# Altium footprint library Caps.PcbLib: 14 footprints
Each footprint in its own frame and in the unit in brackets; x right, y up, seen from the top. Pads: shape width x height; smd on the part's side, far side on the other; paste and mask are expansions set on the pad; w line width, h text height; cw(c..) or ccw(c..) is an arc to the next point about the centre after c.
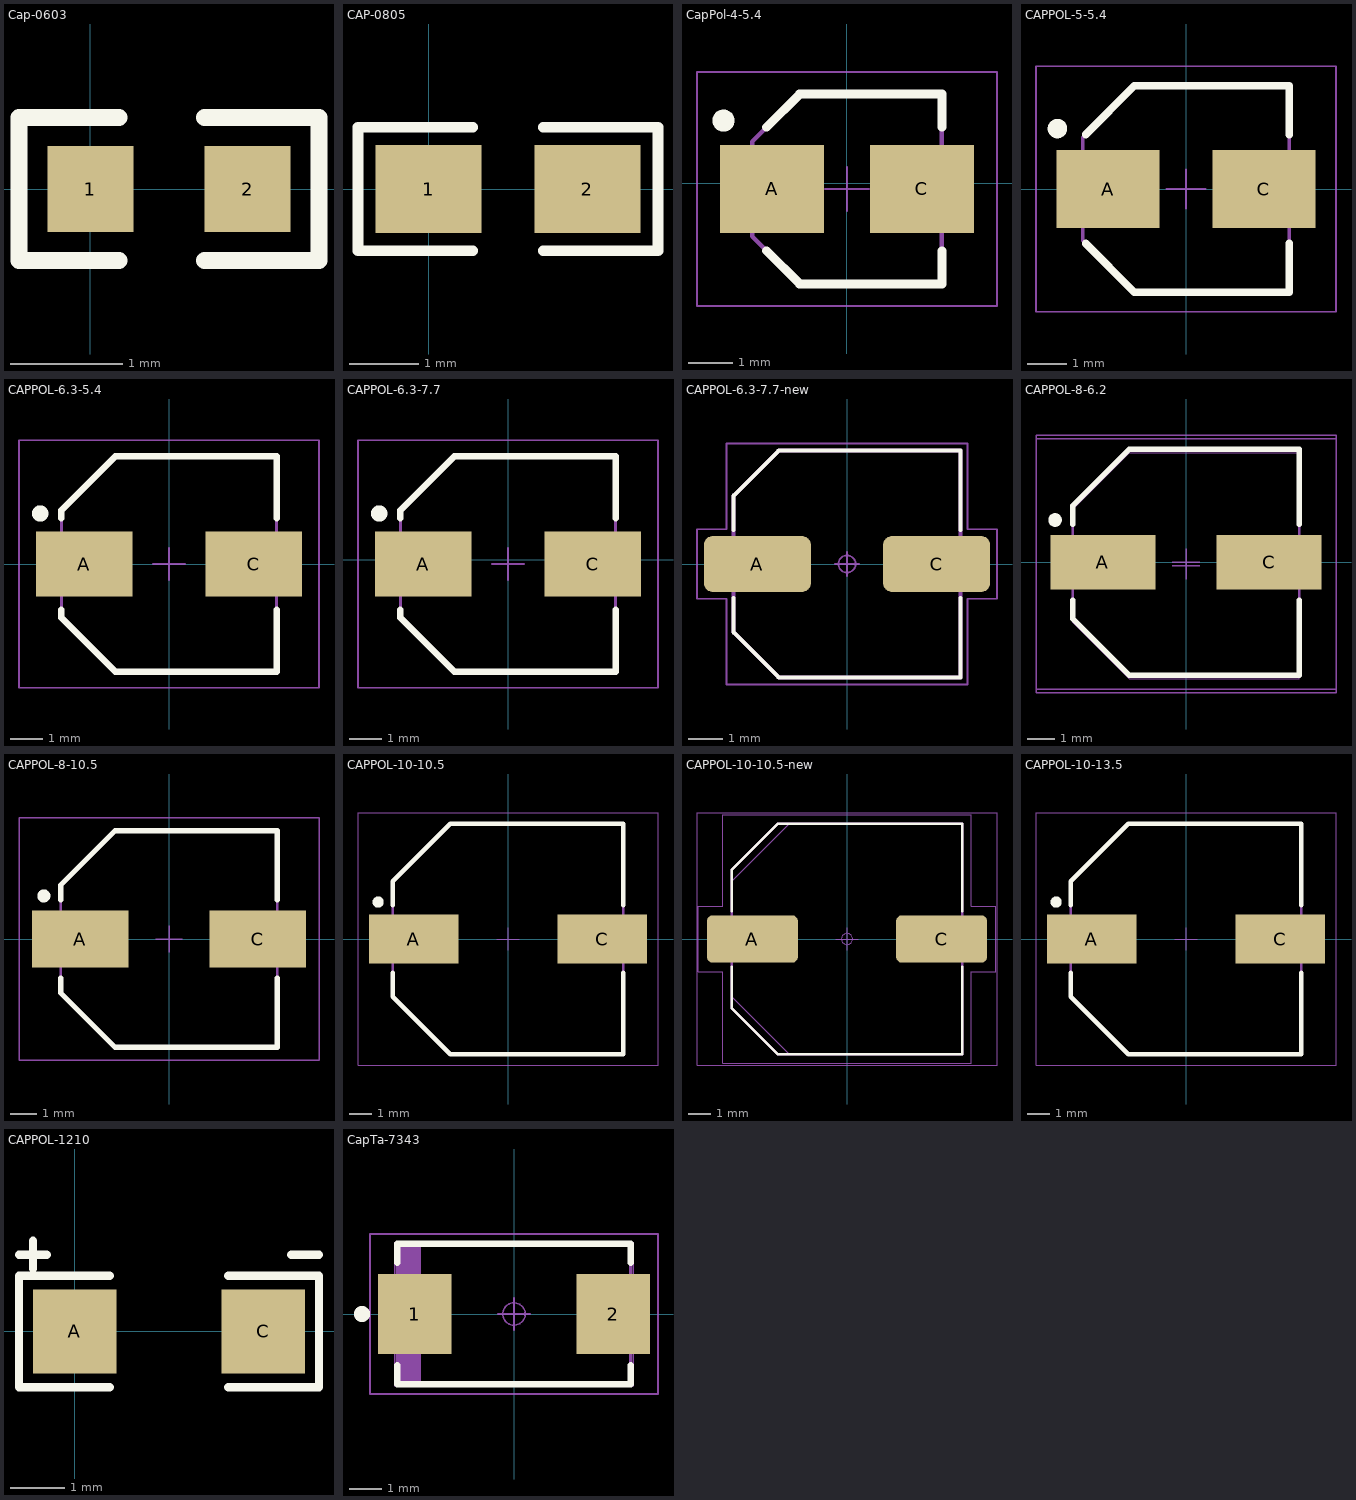
[diagram p0: the footprints below, top view; thin cyan lines are the x and y axes]

## Cap-0603 [mil]
pads (2):
  rect 30x30 smd: 1(0,0) 2(55,0)
Top Overlay:
  lines w6: 10,-25 -25,-25 -25,25 10,25 ; 40,-25 80,-25 80,25 40,25

## CAP-0805 [mil]
pads (2):
  rect 60x50 smd: 1(0,0) 2(90,0)
Top Overlay:
  lines w6: 25,-35 -40,-35 -40,35 25,35 ; 65,-35 130,-35 130,35 65,35

## CapPol-4-5.4 [mm]
pads (2):
  rect 2.35x2 smd: A(-1.7,-0.127) C(1.7,-0.127)
Top Overlay:
  circle w0.25: c-2.8,1.423 r0.125
  lines w0.2: -1.825,-1.527 -1.075,-2.277 2.15,-2.277 2.15,-1.527 ; -1.825,1.273 -1.075,2.023 2.15,2.023 2.15,1.273
Mechanical 15:
  lines w0.1: -2.15,-1.202 -1.075,-2.277 2.15,-2.277 2.15,2.023 -1.075,2.023 -2.15,0.948 -2.15,-1.202
  text "1" at -0.164,-0.577 h0.75
Mechanical 20:
  lines w0.05: -0.5,-0.127 0.5,-0.127 ; 0,-0.627 0,0.373 ; -3.4,-2.777 3.4,-2.777 3.4,2.523 -3.4,2.523 -3.4,-2.777
Mechanical 21:
  lines w0.001: -2.15,-1.202 -1.075,-2.277 2.15,-2.277 2.15,2.023 -1.075,2.023 -2.15,0.948 -2.15,-1.202

## CAPPOL-5-5.4 [mm]
pads (2):
  rect 2.65x2 smd: A(-2,0) C(2,0)
Top Overlay:
  circle w0.25: c-3.3,1.55 r0.125
  lines w0.2: -2.575,-1.4 -1.325,-2.65 2.65,-2.65 2.65,-1.4 ; -2.575,1.4 -1.325,2.65 2.65,2.65 2.65,1.4
Mechanical 15:
  lines w0.1: -2.65,-1.325 -2.65,1.325 -1.325,2.65 2.65,2.65 2.65,-2.65 -1.325,-2.65 -2.65,-1.325
  text "1" at -0.164,-0.45 h0.75
Mechanical 20:
  lines w0.05: -0.5,0 0.5,0 ; 0,-0.5 0,0.5 ; -3.85,-3.15 -3.85,3.15 3.85,3.15 3.85,-3.15 -3.85,-3.15
Mechanical 21:
  lines w0.001: -2.65,-1.325 -2.65,1.325 -1.325,2.65 2.65,2.65 2.65,-2.65 -1.325,-2.65 -2.65,-1.325

## CAPPOL-6.3-5.4 [mm]
pads (2):
  rect 2.95x2 smd: A(-2.6,0) C(2.6,0)
Top Overlay:
  circle w0.25: c-3.95,1.55 r0.125
  lines w0.2: -3.3,-1.4 -3.3,-1.65 -1.65,-3.3 3.3,-3.3 3.3,-1.4 ; -3.3,1.4 -3.3,1.65 -1.65,3.3 3.3,3.3 3.3,1.4
Mechanical 15:
  lines w0.1: -3.3,-1.65 -3.3,1.65 -1.65,3.3 3.3,3.3 3.3,-3.3 -1.65,-3.3 -3.3,-1.65
  text "1" at -0.164,-0.45 h0.75
Mechanical 20:
  lines w0.05: -0.5,0 0.5,0 ; 0,-0.5 0,0.5 ; -4.6,-3.8 -4.6,3.8 4.6,3.8 4.6,-3.8 -4.6,-3.8
Mechanical 21:
  lines w0.001: -3.3,-1.65 -3.3,1.65 -1.65,3.3 3.3,3.3 3.3,-3.3 -1.65,-3.3 -3.3,-1.65

## CAPPOL-6.3-7.7 [mm]
pads (2):
  rect 2.95x2 smd: A(-2.6,-0.127) C(2.6,-0.127)
Top Overlay:
  circle w0.25: c-3.95,1.423 r0.125
  lines w0.2: -3.3,-1.527 -3.3,-1.777 -1.65,-3.427 3.3,-3.427 3.3,-1.527 ; -3.3,1.273 -3.3,1.523 -1.65,3.173 3.3,3.173 3.3,1.273
Mechanical 15:
  lines w0.1: -3.3,-1.777 -3.3,1.523 -1.65,3.173 3.3,3.173 3.3,-3.427 -1.65,-3.427 -3.3,-1.777
  text "1" at -0.164,-0.577 h0.75
Mechanical 20:
  lines w0.05: -0.5,-0.127 0.5,-0.127 ; 0,-0.627 0,0.373 ; -4.6,-3.927 -4.6,3.673 4.6,3.673 4.6,-3.927 -4.6,-3.927
Mechanical 21:
  lines w0.001: -3.3,-1.777 -3.3,1.523 -1.65,3.173 3.3,3.173 3.3,-3.427 -1.65,-3.427 -3.3,-1.777

## CAPPOL-6.3-7.7-new [mm] "Capacitor, Aluminum Electrolytic; 6.60 mm L X 6.60 mm W X 7.70 mm H body"
height 7.7
pads (2):
  rrect31% 3.11x1.62 smd: A(-2.6,0) C(2.6,0)
Top Overlay:
  lines w0.12: -3.3,-0.99 -3.3,-1.98 -1.98,-3.3 3.3,-3.3 3.3,-0.99 ; -3.3,0.99 -3.3,1.98 -1.98,3.3 3.3,3.3 3.3,0.99
Mechanical 11:
  lines w0.12: -3.3,-1.98 -1.98,-3.3 3.3,-3.3 3.3,3.3 -1.98,3.3 -3.3,1.98 -3.3,-1.98
Mechanical 12:
  lines w0.025: -3.6,-0.325 -1.1,-0.325 -1.1,0.325 -3.6,0.325 -3.6,-0.325 ; -3.3,-1.98 -1.98,-3.3 3.3,-3.3 3.3,3.3 -1.98,3.3 -3.3,1.98 -3.3,-1.98 ; 1.1,-0.325 1.1,0.325 3.6,0.325 3.6,-0.325 1.1,-0.325
Mechanical 15:
  circle w0.05: c0,0 r0.25
  lines w0.05: -0.35,0 0.35,0 ; 0,-0.35 0,0.35 ; -4.355,-1.01 -4.355,1.01 -3.5,1.01 -3.5,3.5 3.5,3.5 3.5,1.01 4.355,1.01 4.355,-1.01 3.5,-1.01 3.5,-3.5 -3.5,-3.5 -3.5,-1.01 -4.355,-1.01
Mechanical 16:
  text ".Designator" at 0,0 h1.2

## CAPPOL-8-6.2 [mm]
pads (2):
  rect 3.85x2 smd: A(-3.05,0) C(3.05,0)
Top Overlay:
  circle w0.25: c-4.8,1.55 r0.125
  lines w0.2: -4.15,-1.4 -4.15,-2.075 -2.075,-4.15 4.15,-4.15 4.15,-1.4 ; -4.15,1.4 -4.15,2.075 -2.075,4.15 4.15,4.15 4.15,1.4
Mechanical 15:
  lines w0.1: -4.15,-2.075 -4.15,2.075 -2.075,4.15 4.15,4.15 4.15,-4.15 -2.075,-4.15 -4.15,-2.075
  text "1" at -0.164,-0.45 h0.75
Mechanical 20:
  lines w0.05: -0.5,-0.127 0.5,-0.127 ; 0,-0.627 0,0.373 ; -5.5,-4.65 5.5,-4.65 ; -5.5,-4.65 -5.5,4.65 ; -5.5,-4.65 -5.5,4.65 ; -5.5,-4.65 5.5,-4.65 ; -5.5,4.65 5.5,4.65 ; -5.5,4.65 5.5,4.65 ; 5.5,-4.65 5.5,4.65 ; 5.5,-4.65 5.5,4.65 ; -5.5,-4.777 5.5,-4.777 5.5,4.523 -5.5,4.523 -5.5,-4.777 ; -0.5,0 0.5,0 -0.5,0 ; 0,-0.5 0,0.5 0,-0.5
Mechanical 21:
  lines w0.001: -4.15,-2.075 -2.075,-4.15 ; -4.15,-2.075 -4.15,2.075 ; -4.15,-2.075 -4.15,2.075 ; -4.15,-2.075 -2.075,-4.15 ; -4.15,2.075 -2.075,4.15 ; -4.15,2.075 -2.075,4.15 ; -2.075,-4.15 4.15,-4.15 ; -2.075,-4.15 4.15,-4.15 ; -2.075,4.15 4.15,4.15 ; -2.075,4.15 4.15,4.15 ; 4.15,-4.15 4.15,4.15 ; 4.15,-4.15 4.15,4.15 ; -4.15,-2.202 -2.075,-4.277 4.15,-4.277 4.15,4.023 -2.075,4.023 -4.15,1.948 -4.15,-2.202

## CAPPOL-8-10.5 [mm]
pads (2):
  rect 3.7x2.2 smd: A(-3.4,0) C(3.4,0)
Top Overlay:
  circle w0.25: c-4.8,1.65 r0.125
  lines w0.2: -4.15,-1.5 -4.15,-2.075 -2.075,-4.15 4.15,-4.15 4.15,-1.5 ; -4.15,1.5 -4.15,2.075 -2.075,4.15 4.15,4.15 4.15,1.5
Mechanical 15:
  lines w0.1: -4.15,-2.075 -4.15,2.075 -2.075,4.15 4.15,4.15 4.15,-4.15 -2.075,-4.15 -4.15,-2.075
  text "1" at -0.164,-0.45 h0.75
Mechanical 20:
  lines w0.05: -0.5,0 0.5,0 ; 0,-0.5 0,0.5 ; -5.75,-4.65 -5.75,4.65 5.75,4.65 5.75,-4.65 -5.75,-4.65
Mechanical 21:
  lines w0.001: -4.15,-2.075 -4.15,2.075 -2.075,4.15 4.15,4.15 4.15,-4.15 -2.075,-4.15 -4.15,-2.075

## CAPPOL-10-10.5 [mm]
pads (2):
  rect 4x2.2 smd: A(-4.2,0) C(4.2,0)
Top Overlay:
  circle w0.25: c-5.8,1.65 r0.125
  lines w0.2: -5.15,-1.5 -5.15,-2.575 -2.575,-5.15 5.15,-5.15 5.15,-1.5 ; -5.15,1.5 -5.15,2.575 -2.575,5.15 5.15,5.15 5.15,1.5
Mechanical 15:
  lines w0.1: -5.15,-2.575 -5.15,2.575 -2.575,5.15 5.15,5.15 5.15,-5.15 -2.575,-5.15 -5.15,-2.575
  text "1" at -0.164,-0.45 h0.75
Mechanical 20:
  lines w0.05: -0.5,0 0.5,0 ; 0,-0.5 0,0.5 ; -6.7,-5.65 -6.7,5.65 6.7,5.65 6.7,-5.65 -6.7,-5.65
Mechanical 21:
  lines w0.001: -5.15,-2.575 -5.15,2.575 -2.575,5.15 5.15,5.15 5.15,-5.15 -2.575,-5.15 -5.15,-2.575

## CAPPOL-10-10.5-new [mm]
pads (2):
  rrect24% 4.06x2.12 smd: A(-4.225,0) C(4.225,0)
Top Overlay:
  lines w0.12: -5.15,-1.24 -5.15,-3.09 -3.09,-5.15 5.15,-5.15 5.15,-1.24 ; -5.15,1.24 -5.15,3.09 -3.09,5.15 5.15,5.15 5.15,1.24
Mechanical 11:
  lines w0.12: -5.15,-3.09 -5.15,3.09 -3.09,5.15 5.15,5.15 5.15,-5.15 -3.09,-5.15 -5.15,-3.09
Mechanical 12:
  lines w0.025: -5.5,-0.45 -5.5,0.45 -2.25,0.45 -2.25,-0.45 -5.5,-0.45 ; -5.15,-3.09 -5.15,3.09 -3.09,5.15 5.15,5.15 5.15,-5.15 -3.09,-5.15 -5.15,-3.09 ; 2.25,-0.45 5.5,-0.45 5.5,0.45 2.25,0.45 2.25,-0.45
Mechanical 15:
  circle w0.05: c0,0 r0.25
  lines w0.05: -0.35,0 0.35,0 ; 0,-0.35 0,0.35 ; -6.655,-1.46 -5.55,-1.46 -5.55,-5.55 5.55,-5.55 5.55,-1.46 6.655,-1.46 6.655,1.46 5.55,1.46 5.55,5.55 -5.55,5.55 -5.55,1.46 -6.655,1.46 -6.655,-1.46
Mechanical 16:
  text ".Designator" at 0,0 h1.2
Mechanical 20:
  lines w0.05: -0.5,0 0.5,0 ; 0,-0.5 0,0.5 ; -6.7,-5.65 6.7,-5.65 6.7,5.65 -6.7,5.65 -6.7,-5.65
Mechanical 21:
  lines w0.001: -5.15,-2.575 -2.575,-5.15 5.15,-5.15 5.15,5.15 -2.575,5.15 -5.15,2.575 -5.15,-2.575

## CAPPOL-10-13.5 [mm]
pads (2):
  rect 4x2.2 smd: A(-4.2,0) C(4.2,0)
Top Overlay:
  circle w0.25: c-5.8,1.65 r0.125
  lines w0.2: -5.15,-1.5 -5.15,-2.575 -2.575,-5.15 5.15,-5.15 5.15,-1.5 ; -5.15,1.5 -5.15,2.575 -2.575,5.15 5.15,5.15 5.15,1.5
Mechanical 15:
  lines w0.1: -5.15,-2.575 -2.575,-5.15 5.15,-5.15 5.15,5.15 -2.575,5.15 -5.15,2.575 -5.15,-2.575
  text "1" at -0.164,-0.45 h0.75
Mechanical 20:
  lines w0.05: -6.7,-5.65 6.7,-5.65 ; -6.7,-5.65 -6.7,5.65 ; -6.7,-5.65 -6.7,5.65 ; -6.7,-5.65 6.7,-5.65 ; -6.7,5.65 6.7,5.65 ; -6.7,5.65 6.7,5.65 ; 6.7,-5.65 6.7,5.65 ; 6.7,-5.65 6.7,5.65 ; -0.5,0 0.5,0 -0.5,0 ; 0,-0.5 0,0.5 0,-0.5
Mechanical 21:
  lines w0.001: -5.15,-2.575 -2.575,-5.15 ; -5.15,-2.575 -5.15,2.575 ; -5.15,-2.575 -5.15,2.575 ; -5.15,-2.575 -2.575,-5.15 ; -5.15,2.575 -2.575,5.15 ; -5.15,2.575 -2.575,5.15 ; -2.575,-5.15 5.15,-5.15 ; -2.575,-5.15 5.15,-5.15 ; -2.575,5.15 5.15,5.15 ; -2.575,5.15 5.15,5.15 ; 5.15,-5.15 5.15,5.15 ; 5.15,-5.15 5.15,5.15

## CAPPOL-1210 [mil]
pads (2):
  rect 60x60 smd: A(0,0) C(135,0)
Top Overlay:
  lines w6: -40,55 -20,55 ; -30,45 -30,65 ; 25,-40 -40,-40 -40,40 25,40 ; 110,-40 175,-40 175,40 110,40 ; 155,55 175,55

## CapTa-7343 [mm]
pads (2):
  rect 2.3x2.5 smd: 1(-3.1,0) 2(3.1,0)
Top Overlay:
  circle w0.25: c-4.75,0 r0.125
  lines w0.2: -3.65,-1.6 -3.65,-2.2 3.65,-2.2 3.65,-1.6 ; -3.65,1.6 -3.65,2.2 3.65,2.2 3.65,1.6
Mechanical 1:
  lines w0.1: -3.55,-2.175 -3.55,2.175 ; -3.45,-2.175 -3.45,2.175 ; -3.35,-2.175 -3.35,2.175 ; -3.25,-2.175 -3.25,2.175 ; -3.15,-2.175 -3.15,2.175 ; -3.05,-2.175 -3.05,2.175 ; -2.95,-2.175 -2.95,2.175 ; -3.65,-2.175 -3.65,2.175 3.65,2.175 3.65,-2.175 -3.65,-2.175
  text "C1" at -0.537,-0.45 h0.75
Mechanical 16:
  circle w0.05: c0,0 r0.35
  lines w0.001: -3.75,-2.25 -3.75,2.25 3.75,2.25 3.75,-2.25 -3.75,-2.25
  lines w0.05: -0.5,0 0.5,0 ; 0,-0.5 0,0.5 ; -4.5,-2.5 -4.5,2.5 4.5,2.5 4.5,-2.5 -4.5,-2.5